# EAGLE library part ZLD04/05 (library v-reg)
Zetex ZLD Series
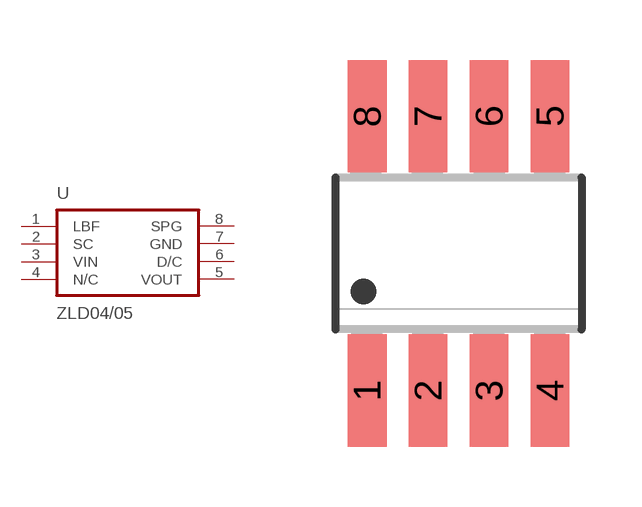
[diagram p7: symbol with the pads of SM-8; footprint SM-8]

Designator prefix U

## ZLD04/05  [SM-8]
1  LBF  oc
2  SC  in
3  VIN  pwr
4  N/C  nc
5  VOUT  out
6  D/C  nc
7  GND  pwr
8  SPG  in

## Footprint SM-8 (pad centres in mm)
smd 0.97 x 2.81: 1 -2.286,-3.429; 2 -0.762,-3.429; 3 0.762,-3.429; 4 2.286,-3.429; 5 2.286,3.429; 6 0.762,3.429; 7 -0.762,3.429; 8 -2.286,3.429